# EAGLE library part KSZ8041 (library Microchip)
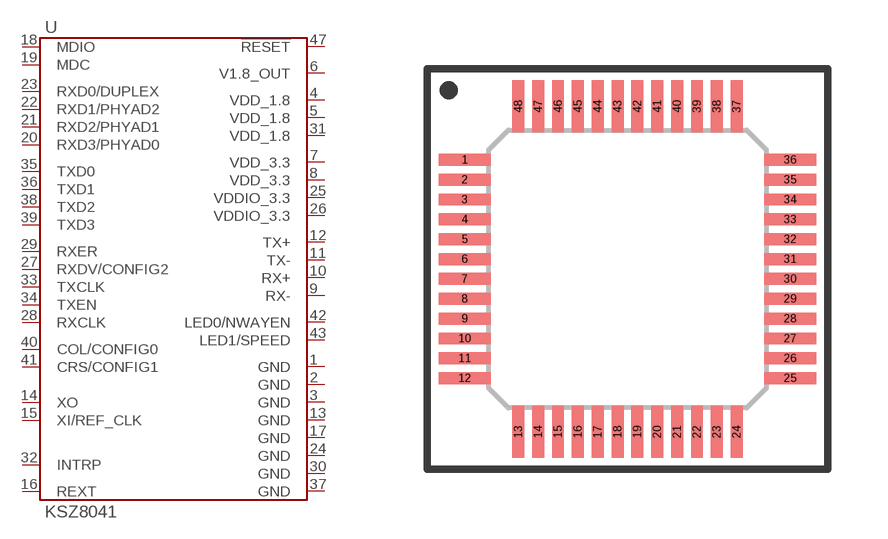
[diagram p13: symbol with the pads of LQFP-48-7X7; footprint LQFP-48-7X7]

Designator prefix U

## KSZ8041TL  [LQFP-48-7X7]
1  GND
2  GND
3  GND
4  VDD_1.8
5  VDD_1.8
6  V1.8_OUT
7  VDD_3.3
8  VDD_3.3
9  RX-
10  RX+
11  TX-
12  TX+
13  GND
14  XO
15  XI/REF_CLK
16  REXT
17  GND
18  MDIO
19  MDC
20  RXD3/PHYAD0
21  RXD2/PHYAD1
22  RXD1/PHYAD2
23  RXD0/DUPLEX
24  GND
25  VDDIO_3.3
26  VDDIO_3.3
27  RXDV/CONFIG2
28  RXCLK
29  RXER
30  GND
31  VDD_1.8
32  INTRP
33  TXCLK
34  TXEN
35  TXD0
36  TXD1
37  GND
38  TXD2
39  TXD3
40  COL/CONFIG0
41  CRS/CONFIG1
42  LED0/NWAYEN
43  LED1/SPEED
47  !RESET

## Footprint LQFP-48-7X7 (pad centres in mm)
smd 1.3 x 0.3: 1 -4.1,2.75; 2 -4.1,2.25; 3 -4.1,1.75; 4 -4.1,1.25; 5 -4.1,0.75; 6 -4.1,0.25; 7 -4.1,-0.25; 8 -4.1,-0.75; 9 -4.1,-1.25; 10 -4.1,-1.75; 11 -4.1,-2.25; 12 -4.1,-2.75; 25 4.1,-2.75; 26 4.1,-2.25; 27 4.1,-1.75; 28 4.1,-1.25; 29 4.1,-0.75; 30 4.1,-0.25; 31 4.1,0.25; 32 4.1,0.75; 33 4.1,1.25; 34 4.1,1.75; 35 4.1,2.25; 36 4.1,2.75
smd 0.3 x 1.3: 13 -2.75,-4.1; 14 -2.25,-4.1; 15 -1.75,-4.1; 16 -1.25,-4.1; 17 -0.75,-4.1; 18 -0.25,-4.1; 19 0.25,-4.1; 20 0.75,-4.1; 21 1.25,-4.1; 22 1.75,-4.1; 23 2.25,-4.1; 24 2.75,-4.1; 37 2.75,4.1; 38 2.25,4.1; 39 1.75,4.1; 40 1.25,4.1; 41 0.75,4.1; 42 0.25,4.1; 43 -0.25,4.1; 44 -0.75,4.1; 45 -1.25,4.1; 46 -1.75,4.1; 47 -2.25,4.1; 48 -2.75,4.1